# Altium footprint library AZ1117IH-3P3TRG1.PcbLib: 3 footprints
Each footprint in its own frame and in the unit in brackets; x right, y up, seen from the top. Pads: shape width x height; smd on the part's side, far side on the other; paste and mask are expansions set on the pad; w line width, h text height; cw(c..) or ccw(c..) is an arc to the next point about the centre after c.
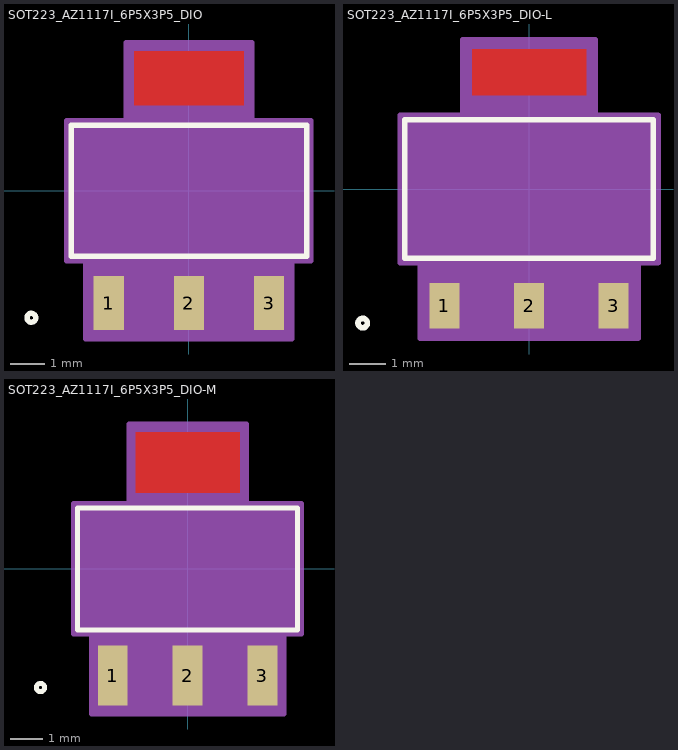
[diagram p0: the footprints below, top view; thin cyan lines are the x and y axes]

## SOT223_AZ1117I_6P5X3P5_DIO [mil]
pads (3):
  rect 34x61 smd paste+0 mask+0: 1(-90.55,-127) 2(0,-127) 3(90.55,-127)
Top Layer:
  region: 62,96.5 62,157.5 -62,157.5 -62,96.5
Top Overlay:
  circle w6: c-178,-143.5 r5
  lines w6: -133,-74 133,-74 133,74 -133,74 -133,-74
Top Paste:
  region: 62,96.5 62,157.5 -62,157.5 -62,96.5
Top Solder:
  region: 63,82.5 63,171.5 -63,171.5 -63,82.5
Mechanical 13:
  circle w0: c-118,-59 r5
  lines w1: -128,-69 128,-69 128,69 -128,69 -128,-69 ; -106.55,-143.5 -106.55,-69 -74.55,-69 -74.55,-143.5 -106.55,-143.5 ; -61,69 61,69 61,143.5 -61,143.5 -61,69 ; -16,-143.5 -16,-69 16,-69 16,-143.5 -16,-143.5 ; 74.55,-143.5 74.55,-69 106.55,-69 106.55,-143.5 74.55,-143.5
Mechanical 15:
  region: -138,-79 -138,79 -71,79 -71,167.5 71,167.5 71,79 138,79 138,-79 116.55,-79 116.55,-167.5 -116.55,-167.5 -116.55,-79
  lines w6: -138,-79 -138,79 -71,79 -71,167.5 71,167.5 71,79 138,79 138,-79 116.55,-79 116.55,-167.5 -116.55,-167.5 -116.55,-79 -138,-79
3D body "SOT223_AZ1117I_6P5X3P5_DIO.step": height 71.1, standoff 0, extent -127.99,-143.5 127.99,143.5

## SOT223_AZ1117I_6P5X3P5_DIO-L [mil]
pads (3):
  rect 32x49 smd paste+0 mask+0: 1(-90.55,-125) 2(0,-125) 3(90.55,-125)
Top Layer:
  region: 61,100.5 61,149.5 -61,149.5 -61,100.5
Top Overlay:
  circle w6: c-178,-143.5 r5
  lines w6: -133,-74 -133,74 133,74 133,-74 -133,-74
Top Paste:
  region: 61,100.5 61,149.5 -61,149.5 -61,100.5
Top Solder:
  region: 61,90.5 61,155.5 -61,155.5 -61,90.5
Mechanical 13:
  circle w0: c-118,-59 r5
  lines w1: -128,-69 -128,69 128,69 128,-69 -128,-69 ; -106.55,-143.5 -74.55,-143.5 -74.55,-69 -106.55,-69 -106.55,-143.5 ; -61,69 -61,143.5 61,143.5 61,69 -61,69 ; -16,-143.5 16,-143.5 16,-69 -16,-69 -16,-143.5 ; 74.55,-143.5 106.55,-143.5 106.55,-69 74.55,-69 74.55,-143.5
Mechanical 15:
  region: -138,-79 -138,79 -71,79 -71,159.5 71,159.5 71,79 138,79 138,-79 116.55,-79 116.55,-159.5 -116.55,-159.5 -116.55,-79
  lines w6: -138,-79 -116.55,-79 -116.55,-159.5 116.55,-159.5 116.55,-79 138,-79 138,79 71,79 71,159.5 -71,159.5 -71,79 -138,79 -138,-79
3D body "SOT223_AZ1117I_6P5X3P5_DIO.step": height 71.1, standoff 0, extent -127.99,-143.5 127.99,143.5

## SOT223_AZ1117I_6P5X3P5_DIO-M [mil]
pads (3):
  rect 36x73 smd paste+0 mask+0: 1(-90.55,-129) 2(0,-129) 3(90.55,-129)
Top Layer:
  region: 63,92.5 63,165.5 -63,165.5 -63,92.5
Top Overlay:
  circle w6: c-178,-143.5 r5
  lines w6: -133,-74 -133,74 133,74 133,-74 -133,-74
Top Paste:
  region: 63,92.5 63,165.5 -63,165.5 -63,92.5
Top Solder:
  region: 65,74.5 65,187.5 -65,187.5 -65,74.5
Mechanical 13:
  circle w0: c-118,-59 r5
  lines w1: -128,-69 -128,69 128,69 128,-69 -128,-69 ; -106.55,-143.5 -74.55,-143.5 -74.55,-69 -106.55,-69 -106.55,-143.5 ; -61,69 -61,143.5 61,143.5 61,69 -61,69 ; -16,-143.5 16,-143.5 16,-69 -16,-69 -16,-143.5 ; 74.55,-143.5 106.55,-143.5 106.55,-69 74.55,-69 74.55,-143.5
Mechanical 15:
  region: -138,-79 -138,79 -71,79 -71,175.5 71,175.5 71,79 138,79 138,-79 116.55,-79 116.55,-175.5 -116.55,-175.5 -116.55,-79
  lines w6: -138,-79 -116.55,-79 -116.55,-175.5 116.55,-175.5 116.55,-79 138,-79 138,79 71,79 71,175.5 -71,175.5 -71,79 -138,79 -138,-79
3D body "SOT223_AZ1117I_6P5X3P5_DIO.step": height 71.1, standoff 0, extent -127.99,-143.5 127.99,143.5